# EAGLE library part MCP1640 (library DonB)
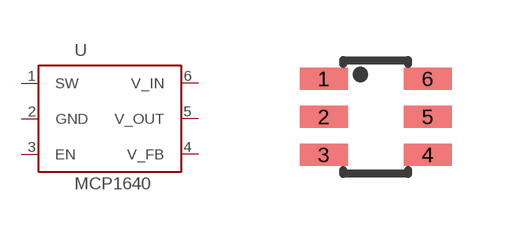
[diagram p5: symbol with the pads of SOT23-6; footprint SOT23-6]

Designator prefix -

## MCP1640  [SOT23-6]
1  SW
2  GND  pwr
3  EN  in
4  V_FB  in
5  V_OUT  sup
6  V_IN  in

## Footprint SOT23-6 (pad centres in mm)
smd 1.2 x 0.55: 1 -1.3,0.95; 2 -1.3,0; 3 -1.3,-0.95; 4 1.3,-0.95; 5 1.3,0; 6 1.3,0.95